# Altium integrated library CAPACITOR.IntLib: 1 symbol
Pins are listed as number, name and electrical type; pins without a type are passive.

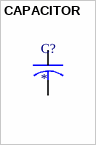
[diagram p0: symbol CAPACITOR]

## CAPACITOR
designator C?
<B>CAPACITOR</B>, American symbol; Package: None; Price: None; Value: *; MP: CAPACITOR; Availability: Unavailable
footprint C0603K
pins: 1, 2